# Altium footprint library testTrans.PcbLib: 14 footprints
Each footprint in its own frame and in the unit in brackets; x right, y up, seen from the top. Pads: shape width x height; smd on the part's side, far side on the other; paste and mask are expansions set on the pad; w line width, h text height; cw(c..) or ccw(c..) is an arc to the next point about the centre after c.
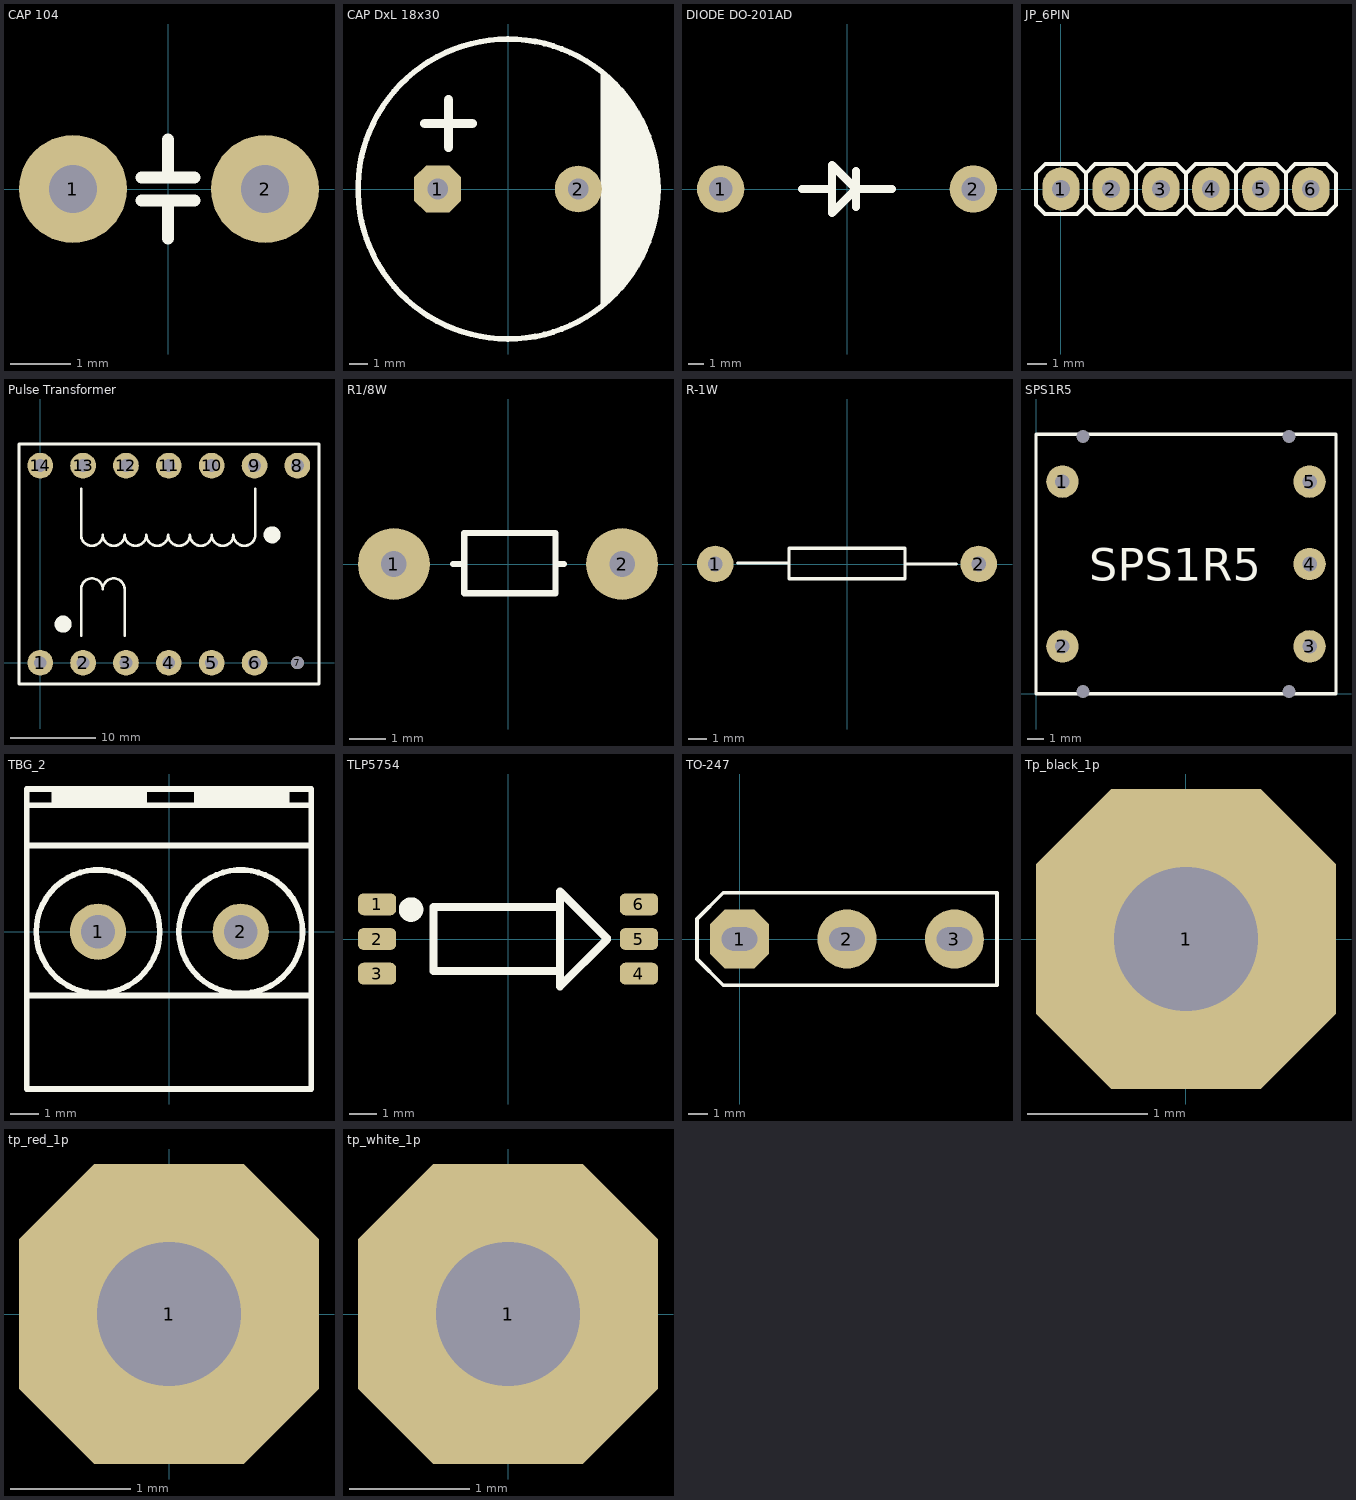
[diagram p0: the footprints below, top view; thin cyan lines are the x and y axes]

## CAP 104 [mm] "Capacitor, Electrolytic, Radial; Body 5 x 11 mm (Dia.xH typ); Pin Spacing 2 mm (typ)"
height 12
pads (2):
  round 1.8 hole 0.8: 1(-1.587,0) 2(1.619,0)
Top Overlay:
  lines w0.2: -0.445,-0.191 0.445,-0.191 ; -0.445,0.191 0.445,0.191 ; 0,-0.826 0,-0.191 ; 0,0.191 0,0.826
3D body "User Library-Ceramic Capacitor 5x3_75mm.step": height 6.46, standoff -2.5, extent -2.459,-1 2.458,1

## CAP DxL 18x30 [mm] "100uF 400V"
pads (2):
  oct 2.5x2.5 hole 1.1: 1(-3.75,0)
  round 2.5 hole 1.1: 2(3.75,0)
Top Overlay:
  region: 4.953,-6.287 5.305,-6.005 5.943,-5.365 6.505,-4.659 6.984,-3.894 7.375,-3.081 7.673,-2.228 7.874,-1.348 7.974,-0.451 7.974,0.451 7.874,1.348 7.673,2.228 7.375,3.081 6.984,3.894 6.505,4.659 5.943,5.365 5.305,6.005 4.953,6.286 4.953,0.445
  lines w0.254: 6.445,-2.859 6.445,2.858
  lines w0.3: 4.998,-6.247 cw(c0,0) 4.998,6.247 cw(c0,0) 4.998,-6.247
  lines w0.5: -4.445,3.492 -1.905,3.492 ; -3.175,2.222 -3.175,4.763
3D body "User Library-CAPAER_D180_L300_P075_W008X030.STEP": height 30.51, standoff -2.5, extent -9,-9 9.01,9

## DIODE DO-201AD [mm] "DIODE DO-201AD"
height 6.5
pads (2):
  round 3 hole 1.5: 1(-8,0) 2(8,0)
Top Overlay:
  lines w0.5: -2.857,0 -0.953,0 ; 0.572,-1.143 0.572,1.143 ; 2.857,0 0.572,0 ; 0.572,0 -0.953,-1.524 -0.953,1.524 0.572,0
3D body "do-201ad.STEP": height 7.55, standoff -1.5, extent -10.55,-2.55 10.55,2.551

## JP_6PIN [mm] "JP_6PIN"
height 5.08
pads (6):
  oval 1.9x2.2 hole 0.9: 1(0,0) 2(2.54,0) 3(5.08,0) 4(7.62,0) 5(10.16,0) 6(12.7,0)
Top Overlay:
  lines w0.2: 0.82,-1.27 -0.81,-1.27 -1.27,-0.81 -1.27,0.8 -0.8,1.27 0.8,1.27 1.27,0.8 ; 0.825,-1.265 1.28,-0.81 1.74,-1.27 3.34,-1.27 3.81,-0.8 ; 1.27,-0.81 1.27,0.8 ; 3.81,0.8 3.81,-0.8 ; 4.29,1.27 3.82,0.8 3.35,1.27 1.74,1.27 1.27,0.8 ; 4.295,1.265 5.875,1.265 6.35,0.79 ; 11.43,-0.81 11.89,-1.27 13.52,-1.27 ; 13.525,-1.265 13.98,-0.81 ; 13.97,-0.81 13.97,0.8 13.5,1.27 11.9,1.27 11.43,0.8 ; 3.81,-0.8 4.28,-1.27 5.88,-1.27 6.35,-0.8 ; 6.35,-0.8 6.82,-1.27 8.42,-1.27 8.89,-0.8 ; 6.35,-0.8 6.35,0.79 ; 6.35,0.79 6.83,1.27 8.42,1.27 8.89,0.8 ; 8.89,-0.8 8.89,0.8 ; 8.89,-0.8 9.355,-1.265 10.965,-1.265 11.43,-0.8 11.43,0.8 ; 8.89,0.8 9.36,1.27 10.96,1.27 11.43,0.8
3D body "JP2.stp": height 8.22, standoff -2.98, extent 8.89,-1.27 13.87,1.23
3D body "JP4.stp": height 8.22, standoff -2.98, extent -1.297,-1.27 8.763,1.23

## Pulse Transformer [mm] "Pulse Transformer"
height 0.9
pads (14):
  round 3 hole 1.5: 1(0,0) 2(5,0) 3(10,0) 4(15,0) 5(20,0) 6(25,0) 8(30,23) 9(25,23) 10(20,23) 11(15,23) 12(10,23) 13(5,23) 14(0,23)
  round 1.5 hole 1.5: 7(30,0)
Top Overlay:
  circle w1: c27.051,14.922 r0.5
  circle w1: c2.667,4.508 r0.5
  lines w0.3: 4.763,3.175 4.763,8.572 cw(c6.032,8.572) 7.302,8.572 cw(c8.572,8.572) 9.842,8.572 9.842,3.175 ; 4.763,20.32 4.763,14.922 ccw(c6.032,14.922) 7.302,14.922 ccw(c8.572,14.922) 9.842,14.922 ccw(c11.112,14.922) 12.383,14.922 ccw(c13.652,14.922) 14.922,14.922 ccw(c16.192,14.922) 17.462,14.922 ccw(c18.732,14.922) 20.002,14.922 ccw(c21.273,14.922) 22.543,14.922 ccw(c23.812,14.922) 25.082,14.922 25.082,20.32 ; -2.476,-2.476 -2.476,25.523 32.524,25.523 32.524,-2.476 -2.476,-2.476

## R1/8W [mm] "R 1/8W, 2 pin, 300mil"
height 2.54
pads (2):
  round 2 hole 0.711: 1(-3.175,0) 2(3.175,0)
Top Overlay:
  lines w0.178: -1.524,0 -1.219,0 ; 1.372,0 1.549,0 ; -1.219,-0.813 -1.219,0.864 1.321,0.864 1.321,-0.813 -1.219,-0.813
3D body "SW3dPS-Res_Normal (0.25W).STEP": height 2.19, standoff -1.73, extent -3.429,-0.901 3.429,0.94

## R-1W [mm] "R-1W"
height 2.54
pads (2):
  round 2 hole 0.8: 1(-7.2,0) 2(7.2,0)
Top Overlay:
  lines w0.178: -5.969,0.051 -3.226,0.051 ; 3.226,0 5.969,0 ; -3.175,-0.813 3.175,-0.813 3.175,0.864 -3.175,0.864 -3.175,-0.813
3D body "220R-Resistor 1w Blue- Diameter 3.5- 14.5- 1%.stp": height 5.02, standoff -2.8, extent -7.55,-2.015 7.55,2.015

## SPS1R5 [mm] "SPS1R5"
height 0.9
pads (9):
  round 2 hole 0.9: 1(1.63,13.08) 2(1.63,2.92) 3(16.87,2.92) 4(16.87,8) 5(16.87,13.08)
  round 0 hole 0.8 square: ""(2.9,0.15) ""(2.9,15.85) ""(15.6,0.15) ""(15.6,15.85)
Top Overlay:
  lines w0.2: 0,0 18.5,0 18.5,16 0,16 0,0
  text "SPS1R5" at 3.294,6.977 h2

## TBG_2 [mm] "Terminal Block Green"
height 0.9
pads (2):
  round 2 / inner round 2 / far side oval 2.4x3 hole 1.2: 1(-2.54,0) 2(2.54,0)
Top Overlay:
  circle w0.2: c-2.54,0 r2.2
  circle w0.2: c2.54,0 r2.2
  rectangle: -4.2,4.5 -0.8,5.08
  rectangle: 0.88,4.5 4.28,5.08
  lines w0.2: -5.08,-2.27 5.055,-2.27 ; -5.08,3.07 5.055,3.07 ; -5.08,4.5 5.055,4.5 ; -5.08,-5.6 5.055,-5.6 5.055,5.08 -5.08,5.08 -5.08,-5.6
3D body "User Library-klema-5mm-2pin.step": height 14, standoff -4, extent -5,-5.5 5,5

## TLP5754 [mm] "TLP5754"
height 0.9
pads (6):
  rrect50% 1.4x0.8 smd: 1(-4.8,1.27) 2(-4.8,0) 3(-4.8,-1.27) 4(4.8,-1.27) 5(4.8,0) 6(4.8,1.27)
Top Overlay:
  circle w0.5: c-3.556,1.079 r0.2
  lines w0.3: 1.905,-1.746 1.905,-1.175 ; 1.916,-1.729 3.631,-0.014 ; 3.619,0.032 1.905,1.746 1.905,1.175 ; 1.905,-1.175 1.905,1.175 ; 1.905,-1.175 -2.73,-1.175 -2.73,1.175 1.905,1.175
3D body "TLP5754_TP,E.stp": height 2.2, standoff 0, extent -5,-1.92 5,1.92

## TO-247 [mm]
height 25.11
pads (3):
  oct 3x3 hole 1.2 slot 1.8 at 0 deg: 1(0,0)
  round 3 hole 1.2 slot 1.8 at 0 deg: 2(5.46,0) 3(10.92,0)
Top Overlay:
  lines w0.2: -2.159,-1.016 -2.159,1.016 -0.826,2.349 13.081,2.349 13.081,-2.349 -0.826,-2.349 -2.159,-1.016
3D body "TO-247.stp": height 24.3, standoff -9.75, extent -2.242,-2.43 13.208,2.43

## Tp_black_1p [mm]
height 0.9
pads (1):
  oct 2.5x2.5 hole 1.2: 1(0,0)
3D body "testpin black 1mm.stp": height 5, standoff -2.53, extent -1.15,-1.15 1.15,1.151

## tp_red_1p [mm]
height 0.9
pads (1):
  oct 2.5x2.5 hole 1.2: 1(0,0)
3D body "testpin red 1mm.stp": height 5, standoff -2.53, extent -1.15,-1.15 1.15,1.15

## tp_white_1p [mm]
height 0.9
pads (1):
  oct 2.5x2.5 hole 1.2: 1(0,0)
3D body "testpin white 1mm.stp": height 5, standoff -2.53, extent -1.15,-1.15 1.15,1.151